# EAGLE library part DS_IC_PERIPHERALS_MCP23017 (library Display-Board_Rack-PDU_2.0)
16-Bit I2C I/O Expander with Serial Interface
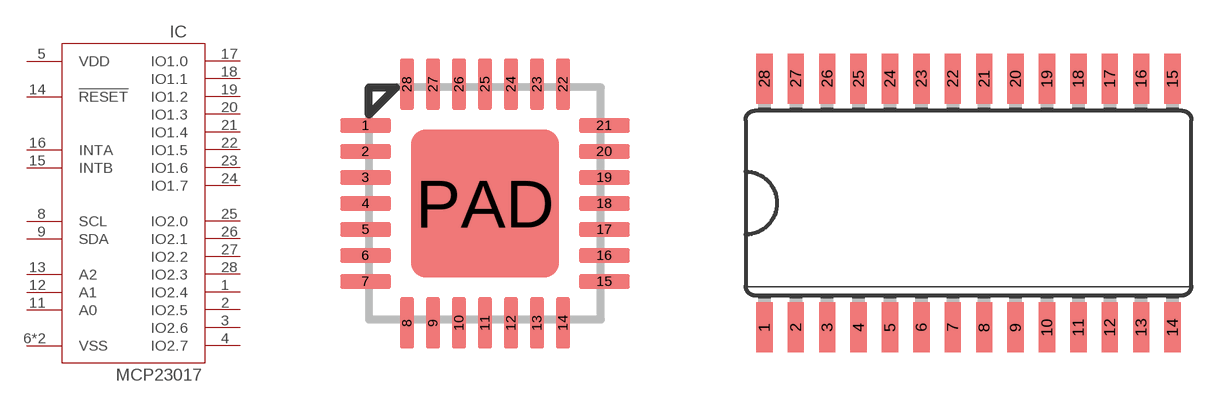
[diagram p3: symbol with the pads of DS_IC_PERIPHERALS_QFN28[6X6]ML; footprints DS_IC_PERIPHERALS_QFN28[6X6]ML, DS_IC_PERIPHERALS_SO28W]

Designator prefix IC

## DS_IC_PERIPHERALS_MCP23017-E/ML  [DS_IC_PERIPHERALS_QFN28[6X6]ML]
1  IO2.4
2  IO2.5
3  IO2.6
4  IO2.7
5  VDD
6  VSS
8  SCL
9  SDA
11  A0
12  A1
13  A2
14  !RESET
15  INTB
16  INTA
17  IO1.0
18  IO1.1
19  IO1.2
20  IO1.3
21  IO1.4
22  IO1.5
23  IO1.6
24  IO1.7
25  IO2.0
26  IO2.1
27  IO2.2
28  IO2.3
PAD  VSS

## DS_IC_PERIPHERALS_MCP23017-E/SO  [DS_IC_PERIPHERALS_SO28W]
1  IO2.0
2  IO2.1
3  IO2.2
4  IO2.3
5  IO2.4
6  IO2.5
7  IO2.6
8  IO2.7
9  VDD
10  VSS
12  SCL
13  SDA
15  A0
16  A1
17  A2
18  !RESET
19  INTB
20  INTA
21  IO1.0
22  IO1.1
23  IO1.2
24  IO1.3
25  IO1.4
26  IO1.5
27  IO1.6
28  IO1.7

## Footprint DS_IC_PERIPHERALS_QFN28[6X6]ML (pad centres in mm)
smd 1.27 x 0.35: 1 -2.985,1.95; 2 -2.985,1.3; 3 -2.985,0.65; 4 -2.985,0; 5 -2.985,-0.65; 6 -2.985,-1.3; 7 -2.985,-1.95; 15 2.985,-1.95; 16 2.985,-1.3; 17 2.985,-0.65; 18 2.985,0; 19 2.985,0.65; 20 2.985,1.3; 21 2.985,1.95
smd 0.35 x 1.27: 8 -1.95,-2.985; 9 -1.3,-2.985; 10 -0.65,-2.985; 11 0,-2.985; 12 0.65,-2.985; 13 1.3,-2.985; 14 1.95,-2.985; 22 1.95,2.985; 23 1.3,2.985; 24 0.65,2.985; 25 0,2.985; 26 -0.65,2.985; 27 -1.3,2.985; 28 -1.95,2.985
smd 3.7 x 3.7: PAD 0,0

## Footprint DS_IC_PERIPHERALS_SO28W (pad centres in mm)
smd 0.66 x 2.032: 1 -8.255,-5.029; 2 -6.985,-5.029; 3 -5.715,-5.029; 4 -4.445,-5.029; 5 -3.175,-5.029; 6 -1.905,-5.029; 7 -0.635,-5.029; 8 0.635,-5.029; 9 1.905,-5.029; 10 3.175,-5.029; 11 4.445,-5.029; 12 5.715,-5.029; 13 6.985,-5.029; 14 8.255,-5.029; 15 8.255,5.029; 16 6.985,5.029; 17 5.715,5.029; 18 4.445,5.029; 19 3.175,5.029; 20 1.905,5.029; 21 0.635,5.029; 22 -0.635,5.029; 23 -1.905,5.029; 24 -3.175,5.029; 25 -4.445,5.029; 26 -5.715,5.029; 27 -6.985,5.029; 28 -8.255,5.029